# Altium schematic symbol library adcs_sch_lib.SchLib: 9 symbols
Pins are listed as number, name and electrical type; pins without a type are passive.

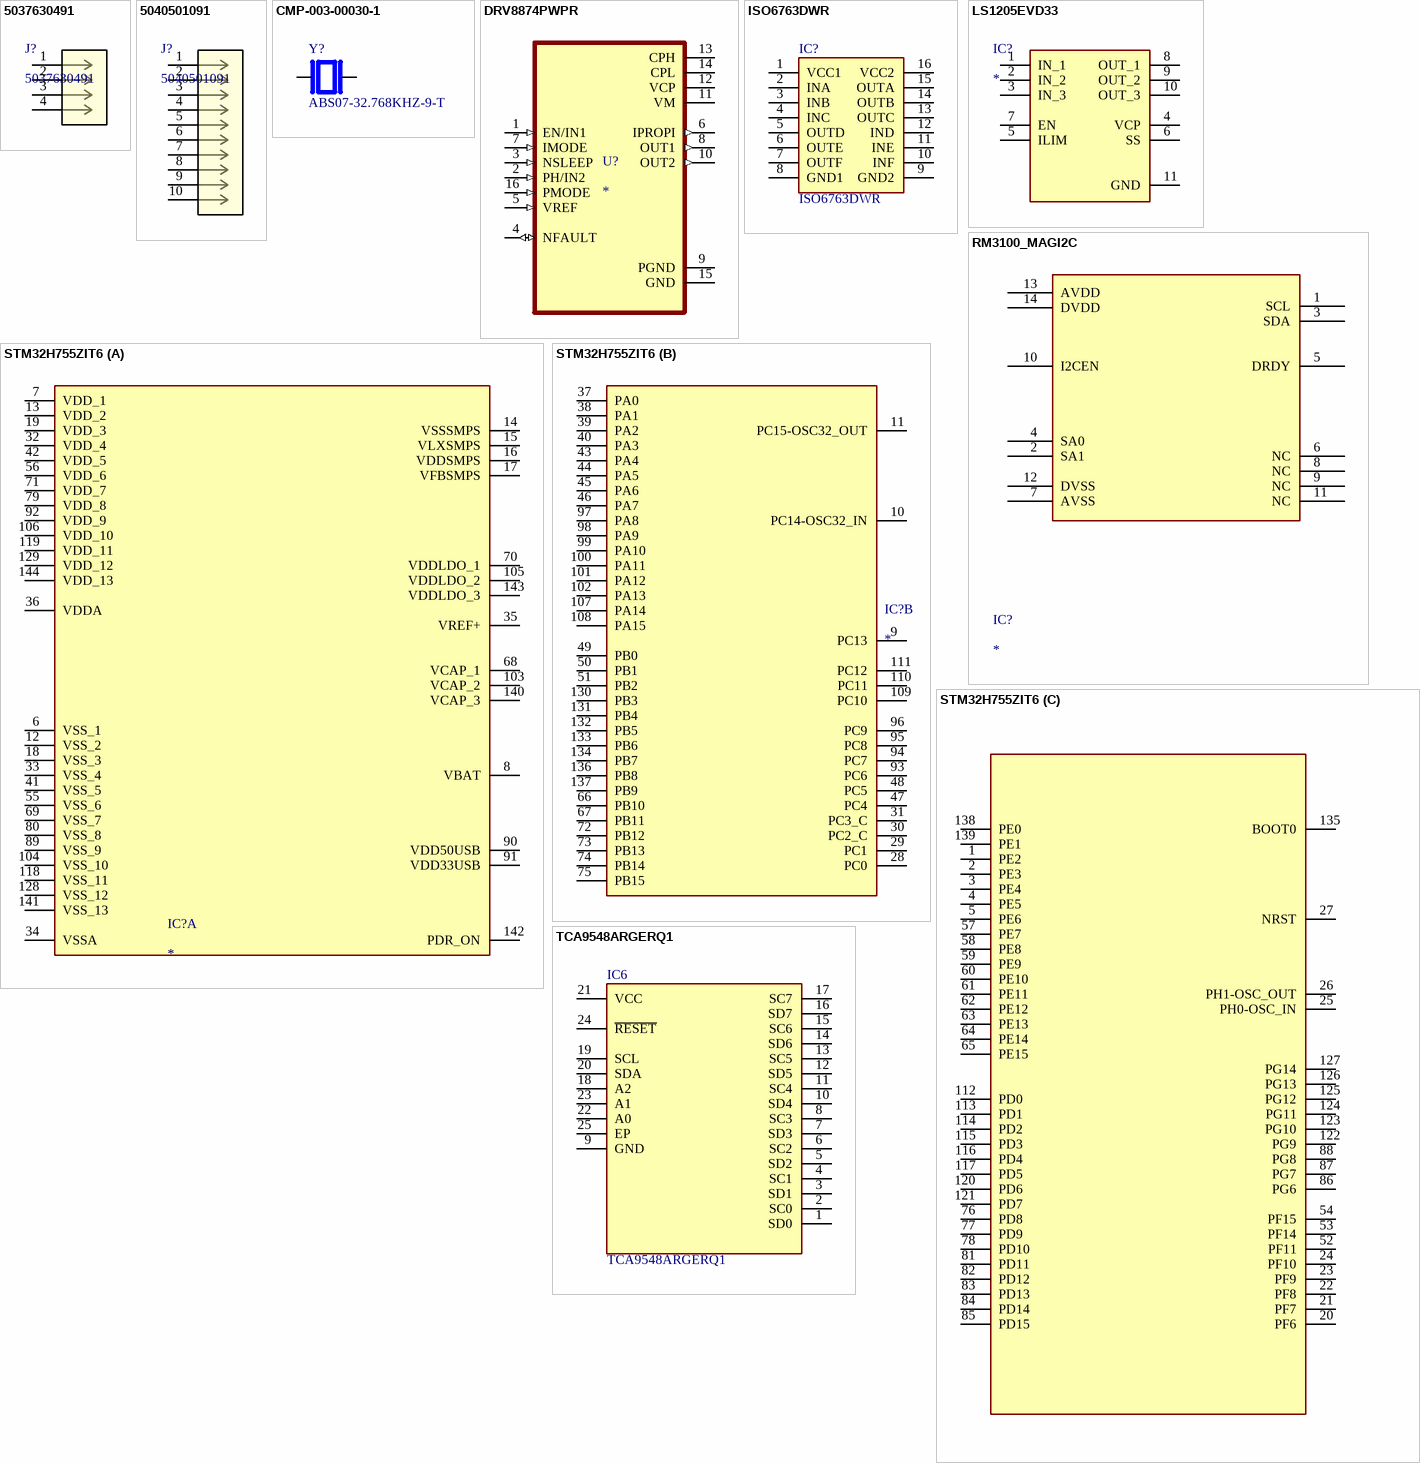
[diagram p0: symbols 5037630491 to TCA9548ARGERQ1]

## 5037630491
designator J?
1.00mm Pitch, Pico-Lock PCB Header, Single Row, Right-Angle, Surface Mount, Gold over Nickel Plating, Positive Lock, 4 Circuits, Tape and Reel; Manufacturer_Name: Molex Connector Corporation; Copyright: Copyright (C) 2025 Ultra Librarian. All rights reserved.; Manufacturer_Part_Number: 5037630491; RefDes: RefDes; Type: Type
footprint CONN_5037630000-SD_04_MOL
pins: 1, 2, 3, 4

## 5040501091
designator J?
1.50mm Pitch, Pico-Lock PCB Header, Single Row, Right-Angle, Surface Mount, Gold (Au) Plating, Positive Lock, 10 Circuits, Tape and Reel; Manufacturer_Name: Molex Connector Corporation; Copyright: Copyright (C) 2025 Ultra Librarian. All rights reserved.; Manufacturer_Part_Number: 5040501091; RefDes: RefDes; Type: Type
footprint CONN_5040501091_MOL
pins: 1, 2, 3, 4, 5, 6, 7, 8, 9, 10

## CMP-003-00030-1
designator Y?, comment ABS07-32.768KHZ-9-T
32.768 kHz Â±20ppm Crystal 9pF 70 kOhms 2-SMD, No Lead; MF: Abracon; Value: *; Check_prices: https://www.snapeda.com/parts/ABS07-32.768KHZ-9-T/Abracon/view-part/?ref=eda; Pins: 2; Design Item ID: ABS07-32.768KHZ-9-T; Case/Package: SMD-2 Abracon LLC; SnapEDA_Link: https://www.snapeda.com/parts/ABS07-32.768KHZ-9-T/Abracon/view-part/?ref=snap; Source: ABS07-32.768KHZ-9-T.SchLib; MP: ABS07-32.768KHZ-9-T; Component Type: Standard
footprint XTAL_ABS07-32.768KHZ-9-T
pins: 1, 2

## DRV8874PWPR
designator U?
40-V, 6-A H-bridge motor driver with integrated current sensing feedback; MF: Texas Instruments; MP: DRV8874PWPR; SnapEDA_Link: https://www.snapeda.com/parts/DRV8874PWPR/Texas+Instruments/view-part/?ref=snap; Package: HTSSOP-16 Texas Instruments; Value: *; Check_prices: https://www.snapeda.com/parts/DRV8874PWPR/Texas+Instruments/view-part/?ref=eda
footprint SOP65P640X120-17N - duplicate
pins: 1 EN/IN1 (in), 2 PH/IN2 (in), 3 NSLEEP (in), 4 NFAULT (io), 5 VREF (in), 6 IPROPI (out), 7 IMODE (in), 8 OUT1 (out), 9 PGND (power), 10 OUT2 (out), 11 VM (power), 12 VCP (power), 13 CPH (power), 14 CPL (power), 15 GND (power), 16 PMODE (in)

## ISO6763DWR
designator IC?
Integrated Circuit; Manufacturer_Name: Texas Instruments; Datasheet Link: https://www.ti.com/lit/ds/symlink/iso6762.pdf?HQS=dis-mous-null-mousermode-dsf-pf-null-wwe&ts=1675320485631&ref_url=https%253A%252F%252Fwww.mouser.com.tr%252F; Height: 2.65mm; Manufacturer_Part_Number: ISO6763DWR; Mouser Part Number: 595-ISO6763DWR; Mouser Price/Stock: https://www.mouser.co.uk/ProductDetail/Texas-Instruments/ISO6763DWR?qs=A6eO%252BMLsxmTfyHDfA1kW0g%3D%3D; Arrow Part Number: ISO6763DWR; Arrow Price/Stock: https://www.arrow.com/en/products/iso6763dwr/texas-instruments?utm_currency=USD&region=europe
footprint SOIC127P1030X265-16N (Footprint not found)
pins: 1 VCC1, 2 INA, 3 INB, 4 INC, 5 OUTD, 6 OUTE, 7 OUTF, 8 GND1, 9 GND2, 10 INF, 11 INE, 12 IND, 13 OUTC, 14 OUTB, 15 OUTA, 16 VCC2

## LS1205EVD33
designator IC?
Efuse IC; Manufacturer_Name: LITTELFUSE; Manufacturer_Part_Number: LS1205EVD33; Datasheet Link: https://www.littelfuse.com/media?resourcetype=datasheets&itemid=b40a8809-c1ad-459d-a34c-84532dbddcb7&filename=littelfuse-protection-ic-ls1205exd33--datasheet; Height: 0.8mm; Mouser Part Number: 576-LS1205EVD33; Mouser Price/Stock: https://www.mouser.co.uk/ProductDetail/Littelfuse/LS1205EVD33?qs=4ASt3YYao0VRtislHe5uQQ%3D%3D; Arrow Part Number: LS1205EVD33; Arrow Price/Stock: https://www.arrow.com/en/products/ls1205evd33/littelfuse?utm_currency=USD&region=nac
footprint LS1205EVD33
pins: 1 IN_1, 2 IN_2, 3 IN_3, 4 VCP, 5 ILIM, 6 SS, 7 EN, 8 OUT_1, 9 OUT_2, 10 OUT_3, 11 GND

## RM3100_MAGI2C
designator IC?
footprint RM3100
pins: 1 SCL, 2 SA1, 3 SDA, 4 SA0, 5 DRDY, 6 NC, 7 AVSS, 8 NC, 9 NC, 10 I2CEN, 11 NC, 12 DVSS, 13 AVDD, 14 DVDD

## STM32H755ZIT6
designator IC?
Integrated Circuit; Manufacturer_Name: STMicroelectronics; Manufacturer_Part_Number: STM32H755ZIT6; Datasheet Link: https://www.st.com/resource/en/datasheet/stm32h755bi.pdf; Height: 1.6mm; Mouser Part Number: 511-STM32H755ZIT6; Mouser Price/Stock: https://www.mouser.co.uk/ProductDetail/STMicroelectronics/STM32H755ZIT6?qs=vLWxofP3U2zCKiY6VSlsfA%3D%3D; Arrow Part Number: STM32H755ZIT6; Arrow Price/Stock: https://www.arrow.com/en/products/stm32h755zit6/stmicroelectronics?utm_currency=USD&region=nac
footprint LQFP-144
part A pins: 6 VSS_1, 7 VDD_1, 8 VBAT, 12 VSS_2, 13 VDD_2, 14 VSSSMPS, 15 VLXSMPS, 16 VDDSMPS, 17 VFBSMPS, 18 VSS_3, 19 VDD_3, 32 VDD_4, 33 VSS_4, 34 VSSA, 35 VREF+, 36 VDDA, 41 VSS_5, 42 VDD_5, 55 VSS_6, 56 VDD_6, 68 VCAP_1, 69 VSS_7, 70 VDDLDO_1, 71 VDD_7, 79 VDD_8, 80 VSS_8, 89 VSS_9, 90 VDD50USB, 91 VDD33USB, 92 VDD_9, 103 VCAP_2, 104 VSS_10, 105 VDDLDO_2, 106 VDD_10, 118 VSS_11, 119 VDD_11, 128 VSS_12, 129 VDD_12, 140 VCAP_3, 141 VSS_13, 142 PDR_ON, 143 VDDLDO_3, 144 VDD_13
part B pins: 9 PC13, 10 PC14-OSC32_IN, 11 PC15-OSC32_OUT, 28 PC0, 29 PC1, 30 PC2_C, 31 PC3_C, 37 PA0, 38 PA1, 39 PA2, 40 PA3, 43 PA4, 44 PA5, 45 PA6, 46 PA7, 47 PC4, 48 PC5, 49 PB0, 50 PB1, 51 PB2, 66 PB10, 67 PB11, 72 PB12, 73 PB13, 74 PB14, 75 PB15, 93 PC6, 94 PC7, 95 PC8, 96 PC9, 97 PA8, 98 PA9, 99 PA10, 100 PA11, 101 PA12, 102 PA13, 107 PA14, 108 PA15, 109 PC10, 110 PC11, 111 PC12, 130 PB3, 131 PB4, 132 PB5, 133 PB6, 134 PB7, 136 PB8, 137 PB9
part C pins: 1 PE2, 2 PE3, 3 PE4, 4 PE5, 5 PE6, 20 PF6, 21 PF7, 22 PF8, 23 PF9, 24 PF10, 25 PH0-OSC_IN, 26 PH1-OSC_OUT, 27 NRST, 52 PF11, 53 PF14, 54 PF15, 57 PE7, 58 PE8, 59 PE9, 60 PE10, 61 PE11, 62 PE12, 63 PE13, 64 PE14, 65 PE15, 76 PD8, 77 PD9, 78 PD10, 81 PD11, 82 PD12, 83 PD13, 84 PD14, 85 PD15, 86 PG6, 87 PG7, 88 PG8, 112 PD0, 113 PD1, 114 PD2, 115 PD3, 116 PD4, 117 PD5, 120 PD6, 121 PD7, 122 PG9, 123 PG10, 124 PG11, 125 PG12, 126 PG13, 127 PG14, 135 BOOT0, 138 PE0, 139 PE1

## TCA9548ARGERQ1
designator IC6
Integrated Circuit; Manufacturer_Name: Texas Instruments; Datasheet Link: http://www.ti.com/lit/gpn/TCA9548A-Q1; Height: 1mm; Manufacturer_Part_Number: TCA9548ARGERQ1; Mouser Part Number: 595-TCA9548ARGERQ1; Mouser Price/Stock: https://www.mouser.co.uk/ProductDetail/Texas-Instruments/TCA9548ARGERQ1?qs=T3oQrply3y8QRq0kg9Jjrw%3D%3D; Arrow Part Number: TCA9548ARGERQ1; Arrow Price/Stock: https://www.arrow.com/en/products/tca9548argerq1/texas-instruments?utm_currency=USD&region=nac
footprint QFN50P400X400X100-25N-D
pins: 1 SD0, 2 SC0, 3 SD1, 4 SC1, 5 SD2, 6 SC2, 7 SD3, 8 SC3, 9 GND, 10 SD4, 11 SC4, 12 SD5, 13 SC5, 14 SD6, 15 SC6, 16 SD7, 17 SC7, 18 A2, 19 SCL, 20 SDA, 21 VCC, 22 A0, 23 A1, 24 ~{RESET}, 25 EP